# Altium footprint library Chip Switch.PcbLib: 1 footprints
Each footprint in its own frame and in the unit in brackets; x right, y up, seen from the top. Pads: shape width x height; smd on the part's side, far side on the other; paste and mask are expansions set on the pad; w line width, h text height; cw(c..) or ccw(c..) is an arc to the next point about the centre after c.
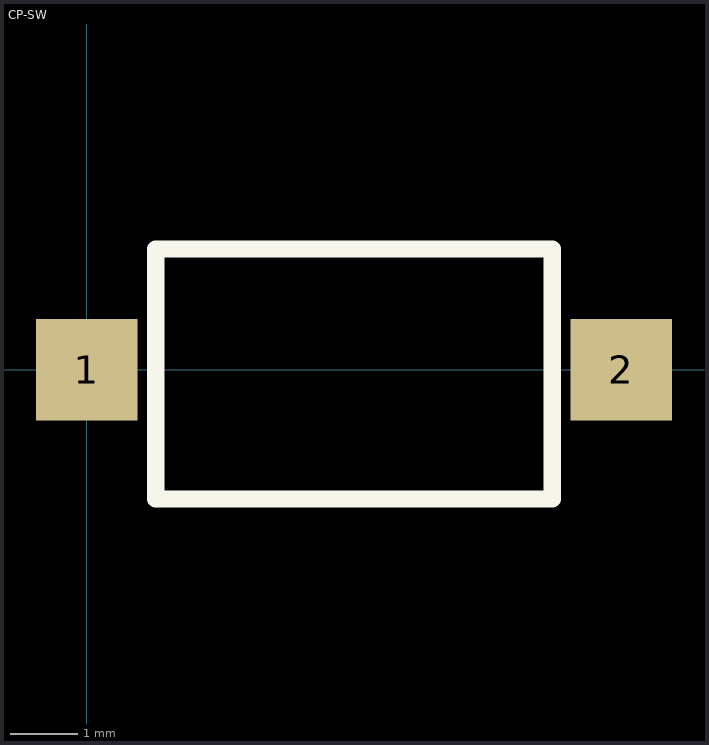
[diagram p0: the footprint, top view; thin cyan lines are the x and y axes]

## CP-SW [mm]
pads (2):
  rect 1.5x1.5 smd: 1(0,0) 2(7.874,0)
Top Overlay:
  lines w0.254: 1.016,-1.905 1.016,1.778 6.858,1.778 6.858,-1.905 1.016,-1.905